# Altium schematic symbol library esd410.SchLib: 2 symbols
Pins are listed as number, name and electrical type; pins without a type are passive.

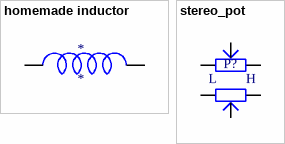
[diagram p0: symbols homemade inductor to stereo_pot]

## homemade inductor
designator *
footprint homecooked inductor
footprint RS PRO inductor
pins: 1, 2

## stereo_pot
designator P?  (value not drawn)
footprint POT STEREO LOOOOONG
pins: 1, 2, 3, 4, 5, 6
text: L; H